# EAGLE library part MODULO_WIFI_SPWF01 (library MODULO_WIFI_SPWF01)
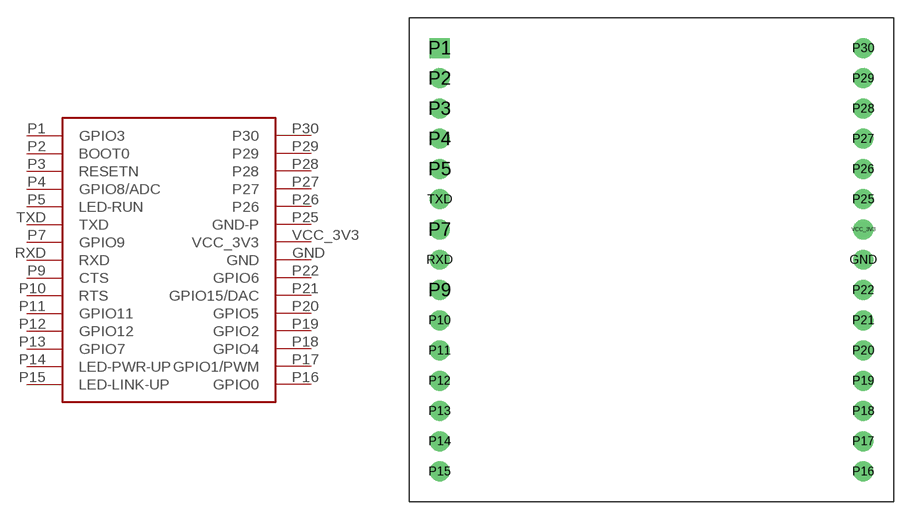
[diagram p0: symbol with the pads of MODULO_WIFI_SPWF01; footprint MODULO_WIFI_SPWF01]

Designator prefix P

## MODULO_WIFI_SPWF01 (SPWF01SA: SPWF01SA)  [MODULO_WIFI_SPWF01]
GND  GND
P1  GPIO3
P2  BOOT0
P3  RESETN
P4  GPIO8/ADC
P5  LED-RUN
P7  GPIO9
P9  CTS
P10  RTS
P11  GPIO11
P12  GPIO12
P13  GPIO7
P14  LED-PWR-UP
P15  LED-LINK-UP
P16  GPIO0
P17  GPIO1/PWM
P18  GPIO4
P19  GPIO2
P20  GPIO5
P21  GPIO15/DAC
P22  GPIO6
P25  GND-P
P26  P26
P27  P27
P28  P28
P29  P29
P30  P30
RXD  RXD
TXD  TXD
VCC_3V3  VCC_3V3

## Footprint MODULO_WIFI_SPWF01 (pad centres in mm)
drill 1 pad 1.676: GND 35.56,-15.24; P2 0,0; P3 0,-2.54; P4 0,-5.08; P5 0,-7.62; P7 0,-12.7; P9 0,-17.78; P10 0,-20.32; P11 0,-22.86; P12 0,-25.4; P13 0,-27.94; P14 0,-30.48; P15 0,-33.02; P16 35.56,-33.02; P17 35.56,-30.48; P18 35.56,-27.94; P19 35.56,-25.4; P20 35.56,-22.86; P21 35.56,-20.32; P22 35.56,-17.78; P25 35.56,-10.16; P26 35.56,-7.62; P27 35.56,-5.08; P28 35.56,-2.54; P29 35.56,0; P30 35.56,2.54; RXD 0,-15.24; TXD 0,-10.16; VCC_3V3 35.56,-12.7
drill 1 pad 1.676 square: P1 0,2.54